# Altium footprint library SCA103.PcbLib: 1 footprints
Each footprint in its own frame and in the unit in brackets; x right, y up, seen from the top. Pads: shape width x height; smd on the part's side, far side on the other; paste and mask are expansions set on the pad; w line width, h text height; cw(c..) or ccw(c..) is an arc to the next point about the centre after c.
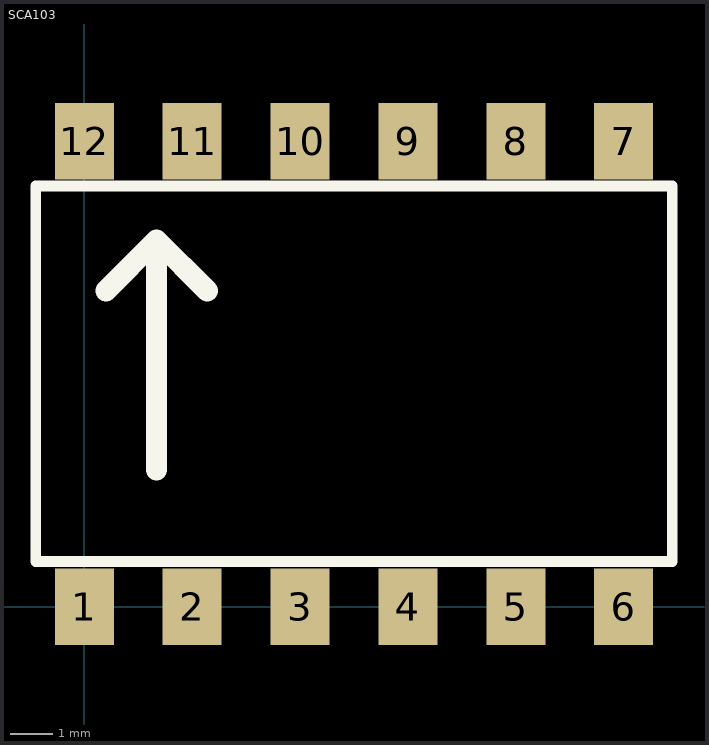
[diagram p0: the footprint, top view; thin cyan lines are the x and y axes]

## SCA103 [mm] "VTI Tech (accelerometer)"
height 5.08
pads (12):
  rect 1.39x1.81 smd: 1(0,0) 2(2.54,0) 3(5.08,0) 4(7.62,0) 5(10.16,0) 6(12.7,0) 7(12.7,10.96) 8(10.16,10.96) 9(7.62,10.96) 10(5.08,10.96) 11(2.54,10.96) 12(0,10.96)
TopOverlay:
  lines w0.254: -1.143,1.067 13.843,1.067 13.843,9.906 -1.143,9.906 -1.143,1.067
  lines w0.5: 0.508,7.442 1.702,8.636 ; 1.702,3.226 1.702,8.636 ; 2.896,7.442 1.702,8.636
  text "." at -0.127,2.413 h1.52
3D body: height 5.22, standoff 0.02, extent -1.448,-0.17 14.148,11.133